# Altium footprint library XGZP-pressure-sensor.PcbLib: 1 footprints
Each footprint in its own frame and in the unit in brackets; x right, y up, seen from the top. Pads: shape width x height; smd on the part's side, far side on the other; paste and mask are expansions set on the pad; w line width, h text height; cw(c..) or ccw(c..) is an arc to the next point about the centre after c.
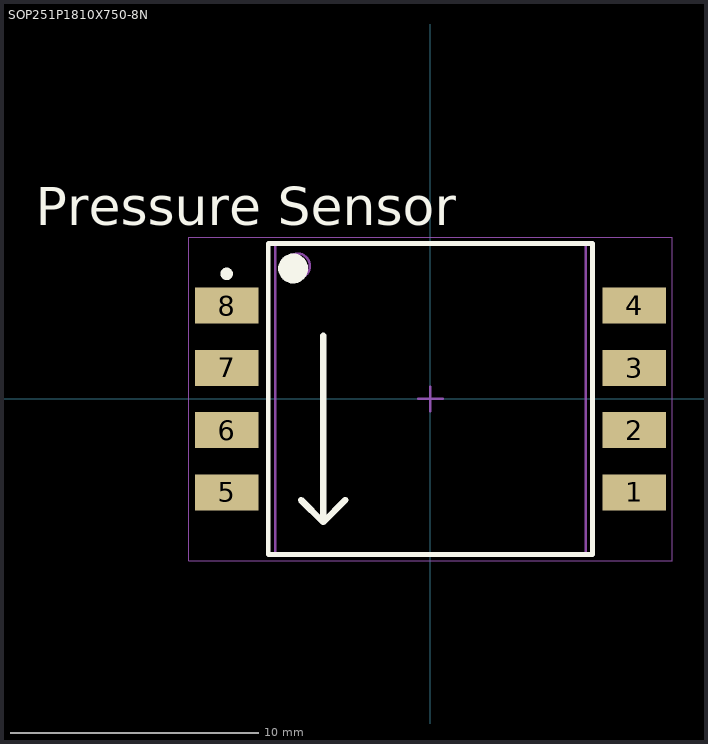
[diagram p0: the footprint, top view; thin cyan lines are the x and y axes]

## SOP251P1810X750-8N [mm] "SOP, 8-Leads, Body 12.25x12.25mm, Pitch 2.51mm, IPC Medium Density"
height 7.5
pads (8):
  rect 2.55x1.45 smd: 1(8.2,-3.759) 2(8.2,-1.253) 3(8.2,1.253) 4(8.2,3.759) 5(-8.2,-3.759) 6(-8.2,-1.253) 7(-8.2,1.253) 8(-8.2,3.759)
Top Overlay:
  circle w0.6: c-5.525,5.25 r0.3
  circle w0.25: c-8.2,5.034 r0.125
  lines w0.2: -6.525,-6.25 6.525,-6.25 6.525,6.25 -6.525,6.25 -6.525,-6.25
  lines w0.254: -5.207,-4.064 -4.318,-4.953 ; -4.318,2.54 -4.318,-4.953 ; -3.429,-4.064 -4.318,-4.953
  text "Pressure Sensor" at -15.875,6.985 h1.52
Mechanical 13:
  circle w0.1: c-5.35,5.35 r0.5
  lines w0.1: -6.25,-6.25 6.25,-6.25 6.25,6.25 -6.25,6.25 -6.25,-6.25
Mechanical 15:
  lines w0.05: -9.725,-6.5 9.725,-6.5 9.725,6.5 -9.725,6.5 -9.725,-6.5
  lines w0.1: -0.5,0 0.5,0 ; 0,-0.5 0,0.5
3D body "SOP251P1810X750-8N.step": height 7.5, standoff 0, extent -9.05,-6.25 9.05,6.25